# Altium schematic symbol library RC1206FR-0710RL.SchLib: 1 symbol
Pins are listed as number, name and electrical type; pins without a type are passive.

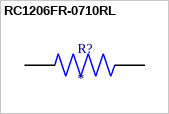
[diagram p0: symbol RC1206FR-0710RL]

## RC1206FR-0710RL
designator R?
10 Ohms Â±1% 0.25W, 1/4W Chip Resistor 1206 (3216 Metric) Moisture Resistant Thick Film; MF: Yageo; MP: RC1206FR-0710RL; SnapEDA_Link: https://www.snapeda.com/parts/RC1206FR-0710RL/Yageo/view-part/?ref=snap; Package: 3116 Yageo; Value: *; Check_prices: https://www.snapeda.com/parts/RC1206FR-0710RL/Yageo/view-part/?ref=eda
footprint RESC3116X65N
pins: 1, 2